# Altium schematic symbol library FCSL110R005FER.SchLib: 1 symbol
Pins are listed as number, name and electrical type; pins without a type are passive.

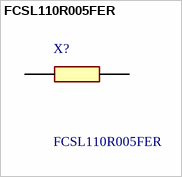
[diagram p0: symbol FCSL110R005FER]

## FCSL110R005FER
designator X?
Ohmite 5m, 11050 Metal Foil SMD Resistor +/-1% 5W - FCSL110R005FER; Geometry.Height: 0.7mm; Manufacturer_Name: Ohmite; Manufacturer_Part_Number: FCSL110R005FER; Mouser Part Number: 588-FCSL110R005FER; Mouser Price/Stock: https://www.mouser.co.uk/ProductDetail/Ohmite/FCSL110R005FER?qs=MhoRK8A7%252BtWFd3RnyGifNg%3D%3D; Arrow Part Number: *; Arrow Price/Stock: *; Datasheet Link: https://www.ohmite.com/assets/images/res-fcsl.pdf
footprint RESC50110X70N
pins: 1, 2